# Altium schematic symbol library ethernet.SchLib: 65 symbols (part 2 of 2)
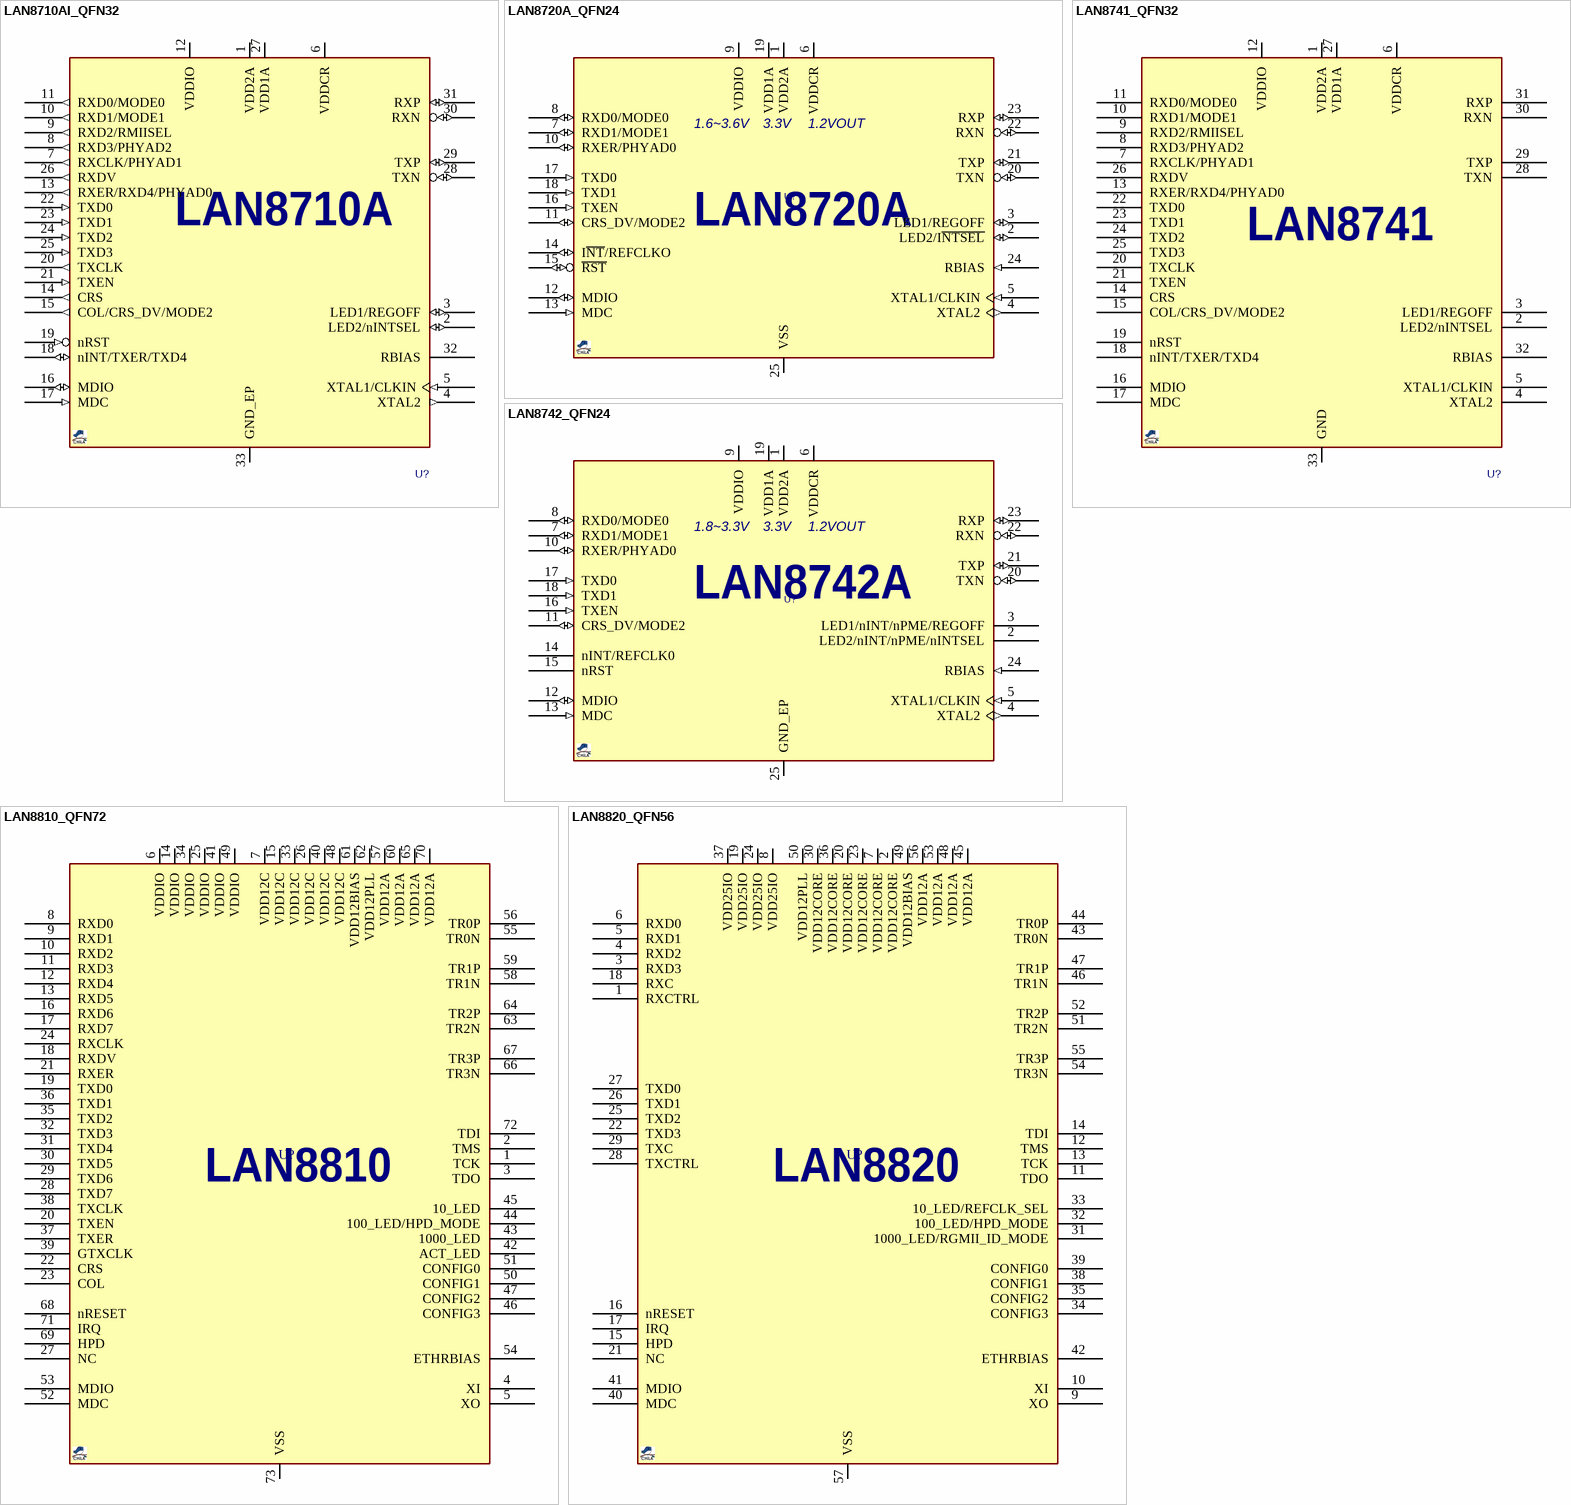
[diagram p14: symbols LAN8710AI_QFN32 to LAN8820_QFN56]

## LAN8710AI_QFN32
designator U?, comment LAN8710  (value not drawn)
Ethernet Transceiver, 10/100, MII/RMII/SMI; MANF: SMSC/Microchip; MANF_P#: LAN8710AI-EZK-ABC; PARAM2: 3.3Vcc, 1.6~3.6VIO; PARAM: -40~85oC; PRICE: 1.6$; VALUE: LAN8710; PACKAGE: QFN-32
footprint QFN50_32T (QFN, 32, 5X5mm, 0.5mm)
pins: 1 VDD2A (power), 2 LED2/nINTSEL (io), 3 LED1/REGOFF (io), 4 XTAL2 (out), 5 XTAL1/CLKIN (in), 6 VDDCR (power), 7 RXCLK/PHYAD1 (out), 8 RXD3/PHYAD2 (out), 9 RXD2/RMIISEL (out), 10 RXD1/MODE1 (out), 11 RXD0/MODE0 (out), 12 VDDIO (power), 13 RXER/RXD4/PHYAD0 (out), 14 CRS (out), 15 COL/CRS_DV/MODE2 (out), 16 MDIO (io), 17 MDC (in), 18 nINT/TXER/TXD4 (io), 19 nRST (in), 20 TXCLK (out), 21 TXEN (in), 22 TXD0 (in), 23 TXD1 (in), 24 TXD2 (in), 25 TXD3 (in), 26 RXDV (out), 27 VDD1A (power), 28 TXN (io), 29 TXP (io), 30 RXN (io), 31 RXP (io), 32 RBIAS, 33 GND_EP (power)
text: LAN8710A

## LAN8720A_QFN24
designator U?, comment LAN8720A  (value not drawn)
Ethernet Transceiver, 10/100, RMII, 1.6-3.6V QFN24; MANF: SMSC; MANF_P#: LAN8720A-CP-TR; PARAM2: 1.6-3.6V; VALUE: LAN8720A; PACKAGE: QFN-24
footprint QFN50_24T (MO-220 (JEDEC), RGE S-PQFP-N24 (TI), 4X4mm, 0.5mm, HVQFN24)
pins: 1 VDD2A (power), 2 LED2/I~{NTSEL} (io), 3 LED1/REGOFF (io), 4 XTAL2 (out), 5 XTAL1/CLKIN (in), 6 VDDCR (power), 7 RXD1/MODE1 (io), 8 RXD0/MODE0 (io), 9 VDDIO (power), 10 RXER/PHYAD0 (io), 11 CRS_DV/MODE2 (io), 12 MDIO (io), 13 MDC (in), 14 I~{NT}/REFCLKO (io), 15 ~{RST} (io), 16 TXEN (in), 17 TXD0 (in), 18 TXD1 (in), 19 VDD1A (power), 20 TXN (io), 21 TXP (io), 22 RXN (io), 23 RXP (io), 24 RBIAS (in), 25 VSS (power)
text: 1.6~3.6V; 3.3V; 1.2VOUT

## LAN8741_QFN32
designator U?, comment LAN8741  (value not drawn)
Ethernet Transceiver, 10/100, MII/RMII; MANF: SMSC/Microchip; MANF_P#: LAN8741A-EN; PARAM2: 3.3Vcc, 1.8~3.3VIO; PARAM: -40~85°C; PRICE: 1.6$; VALUE: LAN8741; PACKAGE: QFN-32
footprint QFN50_32T (QFN, 32, 5X5mm, 0.5mm)
pins: 1 VDD2A, 2 LED2/nINTSEL, 3 LED1/REGOFF, 4 XTAL2, 5 XTAL1/CLKIN, 6 VDDCR, 7 RXCLK/PHYAD1, 8 RXD3/PHYAD2, 9 RXD2/RMIISEL, 10 RXD1/MODE1, 11 RXD0/MODE0, 12 VDDIO, 13 RXER/RXD4/PHYAD0, 14 CRS, 15 COL/CRS_DV/MODE2, 16 MDIO, 17 MDC, 18 nINT/TXER/TXD4, 19 nRST, 20 TXCLK, 21 TXEN, 22 TXD0, 23 TXD1, 24 TXD2, 25 TXD3, 26 RXDV, 27 VDD1A, 28 TXN, 29 TXP, 30 RXN, 31 RXP, 32 RBIAS, 33 GND

## LAN8742_QFN24
designator U?, comment LAN8742A  (value not drawn)
Ethernet Transceiver, 10/100, RMII, 1.6-3.6V QFN24; MANF: SMSC, MICROCHIP; MANF_P#: LAN8742AI-CZ, LAN8742A-CZ; PARAM2: 1.8-3.6VIO, 1.2VCORE, 3.3VDDA; PARAM: -40~85oC; PRICE: 1.5$; VALUE: LAN8742A; PACKAGE: QFN-24
footprint QFN50_24T (MO-220 (JEDEC), RGE S-PQFP-N24 (TI), 4X4mm, 0.5mm, HVQFN24)
pins: 1 VDD2A (power), 2 LED2/nINT/nPME/nINTSEL, 3 LED1/nINT/nPME/REGOFF, 4 XTAL2 (out), 5 XTAL1/CLKIN (in), 6 VDDCR (power), 7 RXD1/MODE1 (io), 8 RXD0/MODE0 (io), 9 VDDIO (power), 10 RXER/PHYAD0 (io), 11 CRS_DV/MODE2 (io), 12 MDIO (io), 13 MDC (in), 14 nINT/REFCLK0, 15 nRST, 16 TXEN (in), 17 TXD0 (in), 18 TXD1 (in), 19 VDD1A (power), 20 TXN (io), 21 TXP (io), 22 RXN (io), 23 RXP (io), 24 RBIAS (in), 25 GND_EP (power)
text: 1.8~3.3V; 3.3V; 1.2VOUT

## LAN8810_QFN72
designator U?, comment LAN8810  (value not drawn)
Ethernet Transceiver, Gigabit, 10/100/1000, GMII; MANF: MARVELL; MANF_P#: LAN8810i-AKZE, LAN8810-AKZE; PARAM2: 2.5/3.3VIO, 1~1.2DVDD; PARAM: 10/100/1000, GMII; PRICE: -$; VALUE: LAN8810; PACKAGE: QFN-72
footprint QFN50_72T (QFN, 72-Leads, Body 10x10mm, Pitch 0.5mm)
pins: 1 TCK, 2 TMS, 3 TDO, 4 XI, 5 XO, 6 VDDIO, 7 VDD12C, 8 RXD0, 9 RXD1, 10 RXD2, 11 RXD3, 12 RXD4, 13 RXD5, 14 VDDIO, 15 VDD12C, 16 RXD6, 17 RXD7, 18 RXDV, 19 TXD0, 20 TXEN, 21 RXER, 22 CRS, 23 COL, 24 RXCLK, 25 VDDIO, 26 VDD12C, 27 NC, 28 TXD7, 29 TXD6, 30 TXD5, 31 TXD4, 32 TXD3, 33 VDD12C, 34 VDDIO, 35 TXD2, 36 TXD1, 37 TXER, 38 TXCLK, 39 GTXCLK, 40 VDD12C, 41 VDDIO, 42 ACT_LED, 43 1000_LED, 44 100_LED/HPD_MODE, 45 10_LED, 46 CONFIG3, 47 CONFIG2, 48 VDD12C, 49 VDDIO, 50 CONFIG1, 51 CONFIG0, 52 MDC, 53 MDIO, 54 ETHRBIAS, 55 TR0N, 56 TR0P, 57 VDD12A, 58 TR1N, 59 TR1P, 60 VDD12A, 61 VDD12BIAS, 62 VDD12PLL, 63 TR2N, 64 TR2P, 65 VDD12A, 66 TR3N, 67 TR3P, 68 nRESET, 69 HPD, 70 VDD12A, 71 IRQ, 72 TDI, 73 VSS

## LAN8820_QFN56
designator U?, comment LAN8820  (value not drawn)
Ethernet Transceiver, Gigabit, 10/100/1000, RGMII; MANF: MARVELL; MANF_P#: LAN8820i-ABZJ, LAN8820-ABZJ; PARAM2: 2.5VIO, 1~1.2DVDD; PARAM: 10/100/1000, RGMII; PRICE: -$; VALUE: LAN8820; PACKAGE: QFN-56
footprint QFN50_56T (QFN56, pitch: 0.5mm, 8x8mm)
pins: 1 RXCTRL, 2 VDD12CORE, 3 RXD3, 4 RXD2, 5 RXD1, 6 RXD0, 7 VDD12CORE, 8 VDD25IO, 9 XO, 10 XI, 11 TDO, 12 TMS, 13 TCK, 14 TDI, 15 HPD, 16 nRESET, 17 IRQ, 18 RXC, 19 VDD25IO, 20 VDD12CORE, 21 NC, 22 TXD3, 23 VDD12CORE, 24 VDD25IO, 25 TXD2, 26 TXD1, 27 TXD0, 28 TXCTRL, 29 TXC, 30 VDD12CORE, 31 1000_LED/RGMII_ID_MODE, 32 100_LED/HPD_MODE, 33 10_LED/REFCLK_SEL, 34 CONFIG3, 35 CONFIG2, 36 VDD12CORE, 37 VDD25IO, 38 CONFIG1, 39 CONFIG0, 40 MDC, 41 MDIO, 42 ETHRBIAS, 43 TR0N, 44 TR0P, 45 VDD12A, 46 TR1N, 47 TR1P, 48 VDD12A, 49 VDD12BIAS, 50 VDD12PLL, 51 TR2N, 52 TR2P, 53 VDD12A, 54 TR3N, 55 TR3P, 56 VDD12A, 57 VSS

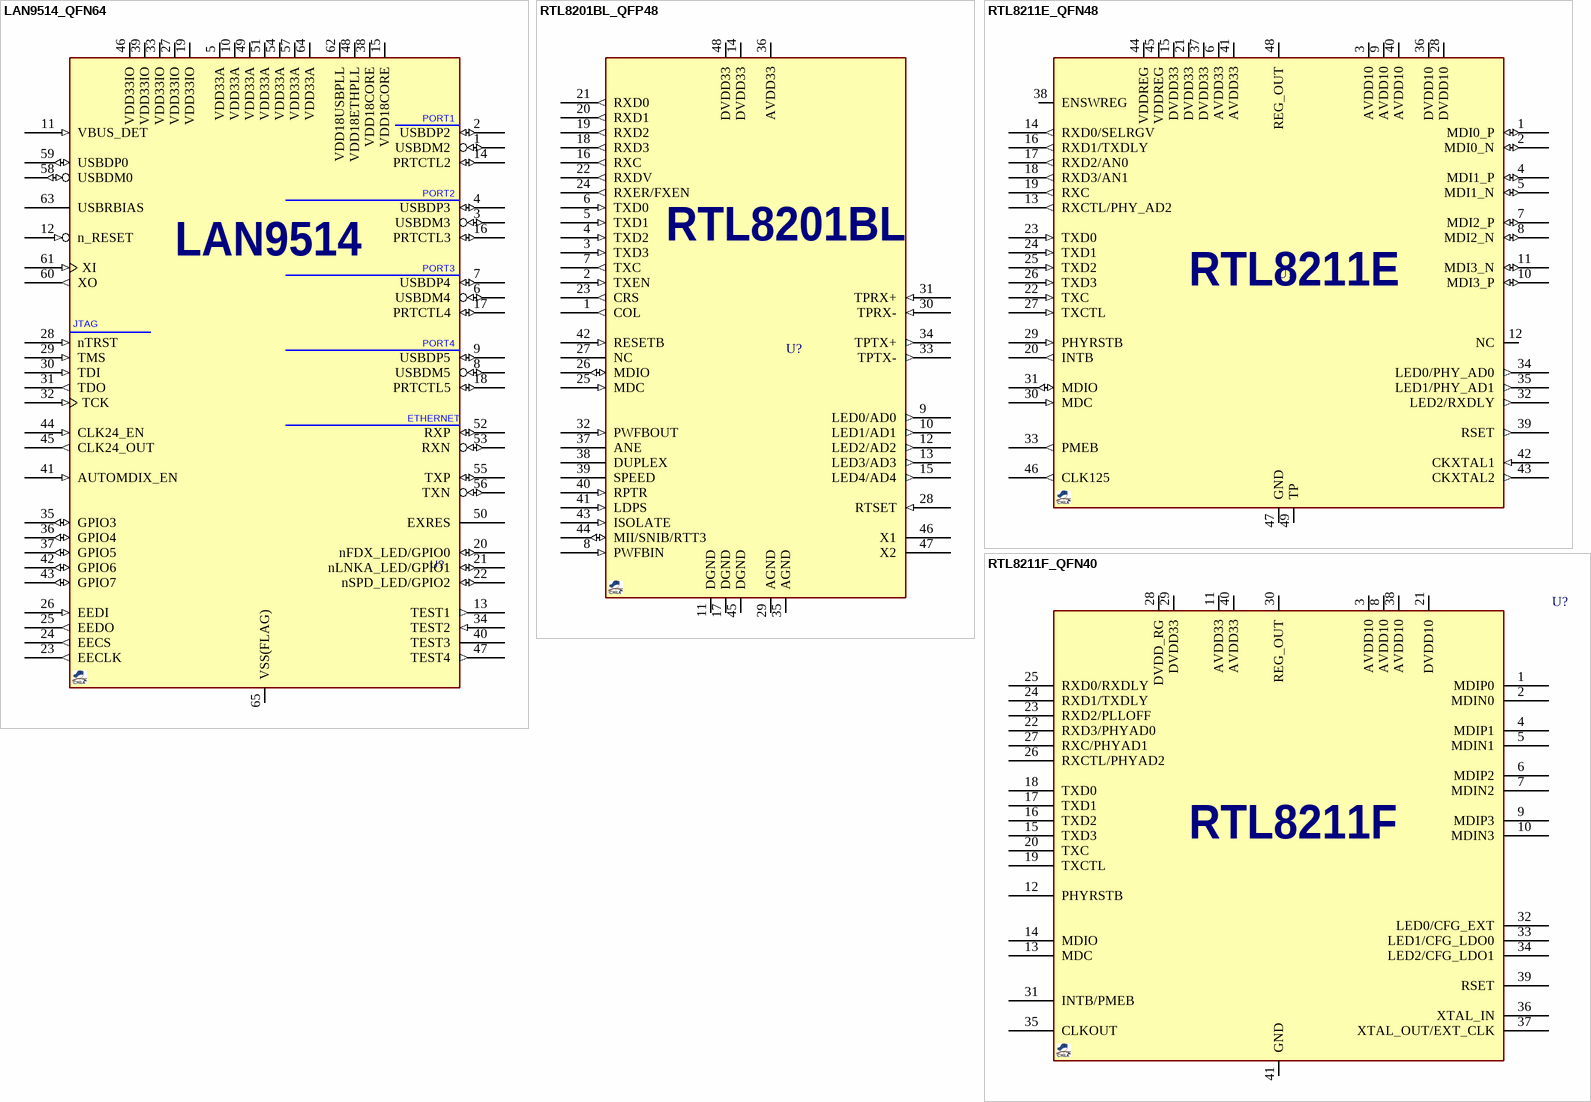
[diagram p10: symbols LAN9514_QFN64 to RTL8211F_QFN40]

## LAN9514_QFN64
designator U?, comment LAN9514  (value not drawn)
Ethernet Transceiver, 10/100, MII +USB2.0HUB; MANF: SMSC; MANF_P#: LAN9514i-JZX, LAN9514-JZX; VALUE: LAN9514; PACKAGE: QFN-64
footprint QFN50_64T (LFCSP_VQ, MO-220-VMMD-4, MO-220-WNJR-5(JEDEC), RGC S-PQFP-N64 (TI), 9X9mm, 0.5mm)
pins: 1 USBDM2 (io), 2 USBDP2 (io), 3 USBDM3 (io), 4 USBDP3 (io), 5 VDD33A (power), 6 USBDM4 (io), 7 USBDP4 (io), 8 USBDM5 (io), 9 USBDP5 (io), 10 VDD33A (power), 11 VBUS_DET (in), 12 n_RESET (in), 13 TEST1 (out), 14 PRTCTL2 (io), 15 VDD18CORE (power), 16 PRTCTL3 (io), 17 PRTCTL4 (io), 18 PRTCTL5 (io), 19 VDD33IO (power), 20 nFDX_LED/GPIO0 (io), 21 nLNKA_LED/GPIO1 (io), 22 nSPD_LED/GPIO2 (io), 23 EECLK (out), 24 EECS (out), 25 EEDO (out), 26 EEDI (in), 27 VDD33IO (power), 28 nTRST (in), 29 TMS (in), 30 TDI (in), 31 TDO (out), 32 TCK (in), 33 VDD33IO (power), 34 TEST2 (in), 35 GPIO3 (io), 36 GPIO4 (io), 37 GPIO5 (io), 38 VDD18CORE (power), 39 VDD33IO (power), 40 TEST3 (power), 41 AUTOMDIX_EN (in), 42 GPIO6 (io), 43 GPIO7 (io), 44 CLK24_EN (in), 45 CLK24_OUT (out), 46 VDD33IO (power), 47 TEST4 (out), 48 VDD18ETHPLL (power), 49 VDD33A (power), 50 EXRES, 51 VDD33A (power), 52 RXP (io), 53 RXN (io), 54 VDD33A (power), 55 TXP (io), 56 TXN (io), 57 VDD33A (power), 58 USBDM0 (io), 59 USBDP0 (io), 60 XO (out), 61 XI (in), 62 VDD18USBPLL (power), 63 USBRBIAS, 64 VDD33A (power), 65 VSS(FLAG) (power)
text: PORT1; PORT2; PORT3; JTAG; PORT4; ETHERNET

## RTL8201BL_QFP48
designator U?, comment RTL8201BL  (value not drawn)
Ethernet Transceiver, 10/100, MII; MANF: Realtek; MANF_P#: RTL8201BL; VALUE: RTL8201BL; PACKAGE: QFP-48
footprint QFG50_48 (LQFP48, PQFF, PQFG, TSQFP, 48-Leads, Body 7.00x7.00mm, Pitch 0.50mm)
pins: 1 COL (out), 2 TXEN (in), 3 TXD3 (in), 4 TXD2 (in), 5 TXD1 (in), 6 TXD0 (in), 7 TXC (out), 8 PWFBIN (in), 9 LED0/AD0 (out), 10 LED1/AD1 (out), 11 DGND (power), 12 LED2/AD2 (out), 13 LED3/AD3 (out), 14 DVDD33 (power), 15 LED4/AD4 (out), 16 RXC (out), 17 DGND (power), 18 RXD3 (out), 19 RXD2 (out), 20 RXD1 (out), 21 RXD0 (out), 22 RXDV (out), 23 CRS (out), 24 RXER/FXEN (out), 25 MDC (in), 26 MDIO (io), 27 NC (power), 28 RTSET (in), 29 AGND (power), 30 TPRX- (in), 31 TPRX+ (in), 32 PWFBOUT (in), 33 TPTX- (out), 34 TPTX+ (out), 35 AGND (power), 36 AVDD33 (power), 37 ANE (power), 38 DUPLEX (power), 39 SPEED (power), 40 RPTR (in), 41 LDPS (in), 42 RESETB (in), 43 ISOLATE (in), 44 MII/SNIB/RTT3 (io), 45 DGND (power), 46 X1, 47 X2, 48 DVDD33 (power)

## RTL8211E_QFN48
designator U?, comment RTL8211E  (value not drawn)
Ethernet Transceiver, 10/100/1000, RGMII; DESC: RTL8211E-VL; MANF: Realtek; MANF_P#: RTL8211E-VB-CG; PARAM2: 2.5VIO (3.3V TOL), 3.3&1.8&1.2; PARAM: 0~65oC; PRICE: 2$; VALUE: RTL8211E; PACKAGE: QFN-48
footprint QFN40_48T (QFN, 48-Leads, Body 6.00x6.00mm, Pitch 0.40mm, Thermal Pad 4.40x4.40mm)
pins: 1 MDI0_P (io), 2 MDI0_N (io), 3 AVDD10 (power), 4 MDI1_P (io), 5 MDI1_N (io), 6 AVDD33 (power), 7 MDI2_P (io), 8 MDI2_N (io), 9 AVDD10 (power), 10 MDI3_P (io), 11 MDI3_N (io), 12 NC, 13 RXCTL/PHY_AD2 (out), 14 RXD0/SELRGV (out), 15 DVDD33 (power), 16 RXD1/TXDLY (out), 17 RXD2/AN0 (out), 18 RXD3/AN1 (out), 19 RXC (out), 20 INTB (out), 21 DVDD33 (power), 22 TXC (in), 23 TXD0 (in), 24 TXD1 (in), 25 TXD2 (in), 26 TXD3 (in), 27 TXCTL (in), 28 DVDD10 (power), 29 PHYRSTB (in), 30 MDC (in), 31 MDIO (io), 32 LED2/RXDLY (out), 33 PMEB (out), 34 LED0/PHY_AD0 (out), 35 LED1/PHY_AD1 (out), 36 DVDD10 (power), 37 DVDD33 (power), 38 ENSWREG (power), 39 RSET (out), 40 AVDD10 (power), 41 AVDD33 (power), 42 CKXTAL1 (in), 43 CKXTAL2 (out), 44 VDDREG (power), 45 VDDREG (power), 46 CLK125 (out), 47 GND (power), 48 REG_OUT (power), 49 TP (power)

## RTL8211F_QFN40
designator U?, comment RTL8211F  (value not drawn)
Ethernet Transceiver, 10/100/1000, RGMII; PARAM2: 2.5VIO (3.3V TOL), 3.3&1.8&1.2; PARAM: 0~65oC; MANF_P#: RTL8211FI-CG; MANF: Realtek; PRICE: 2$; DESC: RTL8211FI-CG; ASSEMBLY: *; VALUE: RTL8211F; PACKAGE: QFN-40
footprint QFN40_40T (40 TQFN-EP (maxim), 5X5mm, 0.4mm)
pins: 1 MDIP0, 2 MDIN0, 3 AVDD10, 4 MDIP1, 5 MDIN1, 6 MDIP2, 7 MDIN2, 8 AVDD10, 9 MDIP3, 10 MDIN3, 11 AVDD33, 12 PHYRSTB, 13 MDC, 14 MDIO, 15 TXD3, 16 TXD2, 17 TXD1, 18 TXD0, 19 TXCTL, 20 TXC, 21 DVDD10, 22 RXD3/PHYAD0, 23 RXD2/PLLOFF, 24 RXD1/TXDLY, 25 RXD0/RXDLY, 26 RXCTL/PHYAD2, 27 RXC/PHYAD1, 28 DVDD_RG, 29 DVDD33, 30 REG_OUT, 31 INTB/PMEB, 32 LED0/CFG_EXT, 33 LED1/CFG_LDO0, 34 LED2/CFG_LDO1, 35 CLKOUT, 36 XTAL_IN, 37 XTAL_OUT/EXT_CLK, 38 AVDD10, 39 RSET, 40 AVDD33, 41 GND

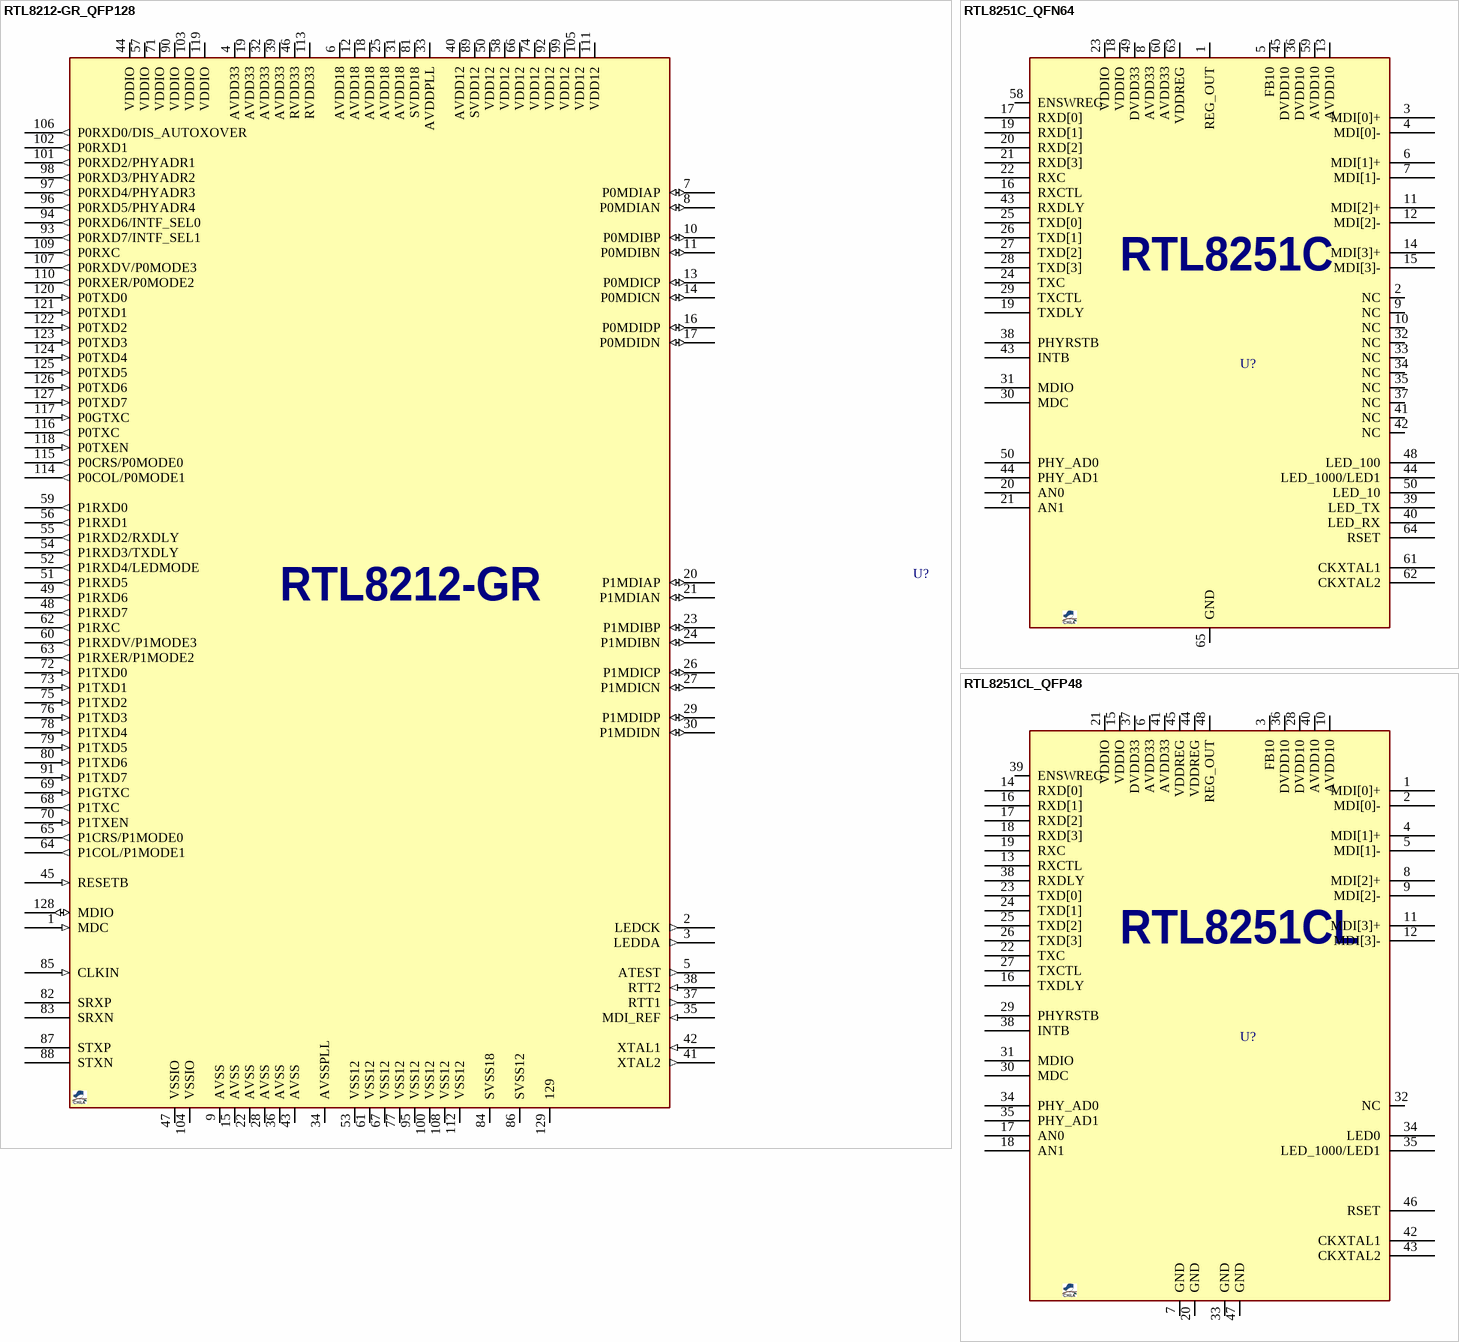
[diagram p11: symbols RTL8212-GR_QFP128 to RTL8251CL_QFP48]

## RTL8212-GR_QFP128
designator U?, comment RTL8212-GR  (value not drawn)
Ethernet Transceiver, DUAL 10/100/1000, GMII/RGMII; MANF: Realtek; MANF_P#: RTL8212-GR; VALUE: RTL8212-GR; PACKAGE: QFP-128
footprint QFG50_128T (128-Leads, Body 20X14mm, Pitch 0.50mm)
pins: 1 MDC (in), 2 LEDCK (out), 3 LEDDA (out), 4 AVDD33 (power), 5 ATEST (out), 6 AVDD18 (power), 7 P0MDIAP (io), 8 P0MDIAN (io), 9 AVSS (power), 10 P0MDIBP (io), 11 P0MDIBN (io), 12 AVDD18 (power), 13 P0MDICP (io), 14 P0MDICN (io), 15 AVSS (power), 16 P0MDIDP (io), 17 P0MDIDN (io), 18 AVDD18 (power), 19 AVDD33 (power), 20 P1MDIAP (io), 21 P1MDIAN (io), 22 AVSS (power), 23 P1MDIBP (io), 24 P1MDIBN (io), 25 AVDD18 (power), 26 P1MDICP (io), 27 P1MDICN (io), 28 AVSS (power), 29 P1MDIDP (io), 30 P1MDIDN (io), 31 AVDD18 (power), 32 AVDD33 (power), 33 AVDDPLL (power), 34 AVSSPLL (power), 35 MDI_REF (in), 36 AVSS (power), 37 RTT1 (out), 38 RTT2 (in), 39 AVDD33 (power), 40 AVDD12 (power), 41 XTAL2 (out), 42 XTAL1 (in), 43 AVSS (power), 44 VDDIO (power), 45 RESETB (in), 46 RVDD33 (power), 47 VSSIO (power), 48 P1RXD7 (out), 49 P1RXD6 (out), 50 VDD12 (power), 51 P1RXD5 (out), 52 P1RXD4/LEDMODE (out), 53 VSS12 (power), 54 P1RXD3/TXDLY (out), 55 P1RXD2/RXDLY (out), 56 P1RXD1 (out), 57 VDDIO (power), 58 VDD12 (power), 59 P1RXD0 (out), 60 P1RXDV/P1MODE3 (out), 61 VSS12 (power), 62 P1RXC (out), 63 P1RXER/P1MODE2 (out), 64 P1COL/P1MODE1 (out), 65 P1CRS/P1MODE0 (out), 66 VDD12 (power), 67 VSS12 (power), 68 P1TXC (out), 69 P1GTXC (in), 70 P1TXEN (in), 71 VDDIO (power), 72 P1TXD0 (in), 73 P1TXD1 (in), 74 VDD12 (power), 75 P1TXD2 (in), 76 P1TXD3 (in), 77 VSS12 (power), 78 P1TXD4 (in), 79 P1TXD5 (in), 80 P1TXD6 (in), 81 SVDD18 (power), 82 SRXP, 83 SRXN, 84 SVSS18 (power), 85 CLKIN (in), 86 SVSS12 (power), 87 STXP, 88 STXN, 89 SVDD12 (power), 90 VDDIO (power), 91 P1TXD7 (in), 92 VDD12 (power), 93 P0RXD7/INTF_SEL1 (out), 94 P0RXD6/INTF_SEL0 (out), 95 VSS12 (power), 96 P0RXD5/PHYADR4 (out), 97 P0RXD4/PHYADR3 (out), 98 P0RXD3/PHYADR2 (out), 99 VDD12 (power), 100 VSS12 (power), 101 P0RXD2/PHYADR1 (out), 102 P0RXD1 (out), 103 VDDIO (power), 104 VSSIO (power), 105 VDD12 (power), 106 P0RXD0/DIS_AUTOXOVER (out), 107 P0RXDV/P0MODE3 (out), 108 VSS12 (power), 109 P0RXC (out), 110 P0RXER/P0MODE2 (out), 111 VDD12 (power), 112 VSS12 (power), 113 RVDD33 (power), 114 P0COL/P0MODE1 (out), 115 P0CRS/P0MODE0 (out), 116 P0TXC (out), 117 P0GTXC (in), 118 P0TXEN (in), 119 VDDIO (power), 120 P0TXD0 (in), 121 P0TXD1 (in), 122 P0TXD2 (in), 123 P0TXD3 (in), 124 P0TXD4 (in), 125 P0TXD5 (in), 126 P0TXD6 (in), 127 P0TXD7 (in), 128 MDIO (io), 129

## RTL8251C_QFN64
designator U?, comment RTL8251C  (value not drawn)
Ethernet Transceiver, 10/100/1000, RGMII; MANF: Realtek; MANF_P#: RTL8251C-GR; PARAM2: 3.3/2.5VIO, 3.3&1.2VCC; PARAM: 0~70oC; VALUE: RTL8251C; PACKAGE: QFN-64
footprint QFN50_64T (LFCSP_VQ, MO-220-VMMD-4, MO-220-WNJR-5(JEDEC), RGC S-PQFP-N64 (TI), 9X9mm, 0.5mm)
pins: 1 REG_OUT, 2 NC, 3 MDI[0]+, 4 MDI[0]-, 5 FB10, 6 MDI[1]+, 7 MDI[1]-, 8 AVDD33, 9 NC, 10 NC, 11 MDI[2]+, 12 MDI[2]-, 13 AVDD10, 14 MDI[3]+, 15 MDI[3]-, 16 RXCTL, 17 RXD[0], 18 VDDIO, 19 RXD[1], 19 TXDLY, 20 RXD[2], 20 AN0, 21 RXD[3], 21 AN1, 22 RXC, 23 VDDIO, 24 TXC, 25 TXD[0], 26 TXD[1], 27 TXD[2], 28 TXD[3], 29 TXCTL, 30 MDC, 31 MDIO, 32 NC, 33 NC, 34 NC, 35 NC, 36 DVDD10, 37 NC, 38 PHYRSTB, 39 LED_TX, 40 LED_RX, 41 NC, 42 NC, 43 RXDLY, 43 INTB, 44 PHY_AD1, 44 LED_1000/LED1, 45 DVDD10, 48 LED_100, 49 DVDD33, 50 PHY_AD0, 50 LED_10, 58 ENSWREG, 59 AVDD10, 60 AVDD33, 61 CKXTAL1, 62 CKXTAL2, 63 VDDREG, 64 RSET, 65 GND

## RTL8251CL_QFP48
designator U?, comment RTL8251CL  (value not drawn)
Ethernet Transceiver, 10/100/1000, RGMII; MANF: Realtek; MANF_P#: RTL8251CL-GR; PARAM2: 3.3/2.5VIO, 3.3&1.2VCC; PARAM: 0~70oC; VALUE: RTL8251CL; PACKAGE: QFP-48
footprint QFG50_48 (LQFP48, PQFF, PQFG, TSQFP, 48-Leads, Body 7.00x7.00mm, Pitch 0.50mm)
pins: 1 MDI[0]+, 2 MDI[0]-, 3 FB10, 4 MDI[1]+, 5 MDI[1]-, 6 AVDD33, 7 GND, 8 MDI[2]+, 9 MDI[2]-, 10 AVDD10, 11 MDI[3]+, 12 MDI[3]-, 13 RXCTL, 14 RXD[0], 15 VDDIO, 16 RXD[1], 16 TXDLY, 17 RXD[2], 17 AN0, 18 RXD[3], 18 AN1, 19 RXC, 20 GND, 21 VDDIO, 22 TXC, 23 TXD[0], 24 TXD[1], 25 TXD[2], 26 TXD[3], 27 TXCTL, 28 DVDD10, 29 PHYRSTB, 30 MDC, 31 MDIO, 32 NC, 33 GND, 34 LED0, 34 PHY_AD0, 35 PHY_AD1, 35 LED_1000/LED1, 36 DVDD10, 37 DVDD33, 38 RXDLY, 38 INTB, 39 ENSWREG, 40 AVDD10, 41 AVDD33, 42 CKXTAL1, 43 CKXTAL2, 44 VDDREG, 45 VDDREG, 46 RSET, 47 GND, 48 REG_OUT

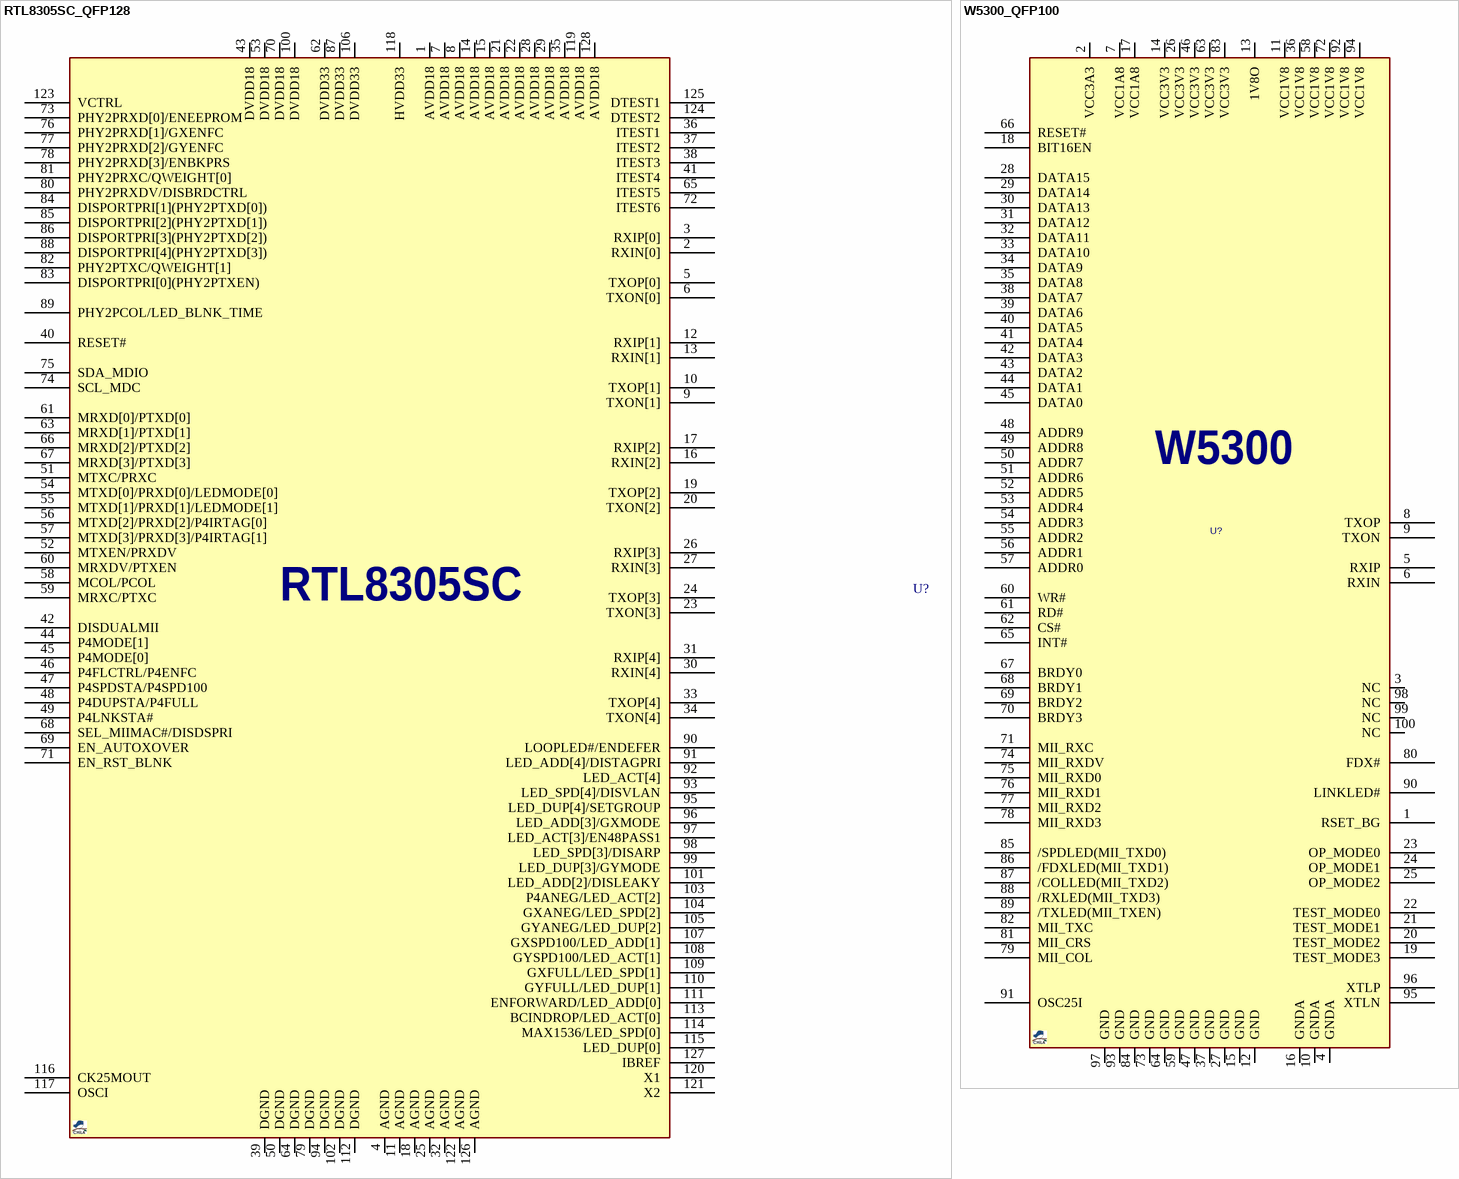
[diagram p12: symbols RTL8305SC_QFP128 to W5300_QFP100]

## RTL8305SC_QFP128
designator U?, comment RTL8305  (value not drawn)
Ethernet Transceiver, 5-port 10/100, MII; MANF: Realtek; MANF_P#: RTL8305SC; PARAM2: 1.8v and 3.3v; VALUE: RTL8305; PACKAGE: QFP-128
footprint QFG50_128T (128-Leads, Body 20X14mm, Pitch 0.50mm)
pins: 1 AVDD18, 2 RXIN[0], 3 RXIP[0], 4 AGND, 5 TXOP[0], 6 TXON[0], 7 AVDD18, 8 AVDD18, 9 TXON[1], 10 TXOP[1], 11 AGND, 12 RXIP[1], 13 RXIN[1], 14 AVDD18, 15 AVDD18, 16 RXIN[2], 17 RXIP[2], 18 AGND, 19 TXOP[2], 20 TXON[2], 21 AVDD18, 22 AVDD18, 23 TXON[3], 24 TXOP[3], 25 AGND, 26 RXIP[3], 27 RXIN[3], 28 AVDD18, 29 AVDD18, 30 RXIN[4], 31 RXIP[4], 32 AGND, 33 TXOP[4], 34 TXON[4], 35 AVDD18, 36 ITEST1, 37 ITEST2, 38 ITEST3, 39 DGND, 40 RESET#, 41 ITEST4, 42 DISDUALMII, 43 DVDD18, 44 P4MODE[1], 45 P4MODE[0], 46 P4FLCTRL/P4ENFC, 47 P4SPDSTA/P4SPD100, 48 P4DUPSTA/P4FULL, 49 P4LNKSTA#, 50 DGND, 51 MTXC/PRXC, 52 MTXEN/PRXDV, 53 DVDD18, 54 MTXD[0]/PRXD[0]/LEDMODE[0], 55 MTXD[1]/PRXD[1]/LEDMODE[1], 56 MTXD[2]/PRXD[2]/P4IRTAG[0], 57 MTXD[3]/PRXD[3]/P4IRTAG[1], 58 MCOL/PCOL, 59 MRXC/PTXC, 60 MRXDV/PTXEN, 61 MRXD[0]/PTXD[0], 62 DVDD33, 63 MRXD[1]/PTXD[1], 64 DGND, 65 ITEST5, 66 MRXD[2]/PTXD[2], 67 MRXD[3]/PTXD[3], 68 SEL_MIIMAC#/DISDSPRI, 69 EN_AUTOXOVER, 70 DVDD18, 71 EN_RST_BLNK, 72 ITEST6, 73 PHY2PRXD[0]/ENEEPROM, 74 SCL_MDC, 75 SDA_MDIO, 76 PHY2PRXD[1]/GXENFC, 77 PHY2PRXD[2]/GYENFC, 78 PHY2PRXD[3]/ENBKPRS, 79 DGND, 80 PHY2PRXDV/DISBRDCTRL, 81 PHY2PRXC/QWEIGHT[0], 82 PHY2PTXC/QWEIGHT[1], 83 DISPORTPRI[0](PHY2PTXEN), 84 DISPORTPRI[1](PHY2PTXD[0]), 85 DISPORTPRI[2](PHY2PTXD[1]), 86 DISPORTPRI[3](PHY2PTXD[2]), 87 DVDD33, 88 DISPORTPRI[4](PHY2PTXD[3]), 89 PHY2PCOL/LED_BLNK_TIME, 90 LOOPLED#/ENDEFER, 91 LED_ADD[4]/DISTAGPRI, 92 LED_ACT[4], 93 LED_SPD[4]/DISVLAN, 94 DGND, 95 LED_DUP[4]/SETGROUP, 96 LED_ADD[3]/GXMODE, 97 LED_ACT[3]/EN48PASS1, 98 LED_SPD[3]/DISARP, 99 LED_DUP[3]/GYMODE, 100 DVDD18, 101 LED_ADD[2]/DISLEAKY, 102 DGND, 103 P4ANEG/LED_ACT[2], 104 GXANEG/LED_SPD[2], 105 GYANEG/LED_DUP[2], 106 DVDD33, 107 GXSPD100/LED_ADD[1], 108 GYSPD100/LED_ACT[1], 109 GXFULL/LED_SPD[1], 110 GYFULL/LED_DUP[1], 111 ENFORWARD/LED_ADD[0], 112 DGND, 113 BCINDROP/LED_ACT[0], 114 MAX1536/LED_SPD[0], 115 LED_DUP[0], 116 CK25MOUT, 117 OSCI, 118 HVDD33, 119 AVDD18, 120 X1, 121 X2, 122 AGND, 123 VCTRL, 124 DTEST2, 125 DTEST1, 126 AGND, 127 IBREF, 128 AVDD18

## W5300_QFP100
designator U?, comment W5300  (value not drawn)
Ethernet Controller, 10/100, MII, DMA; MANF: WIZNET; MANF_P#: W5300; VALUE: W5300; PACKAGE: QFP-100
footprint QFG50_100 (LQFP100, PQFP100, A100 (Cypress), TQ100/VQ100 (Xilinx), 14.0x14.0mm, Pitch 0.5mm, HT100, HTG100)
pins: 1 RSET_BG, 2 VCC3A3, 3 NC, 4 GNDA, 5 RXIP, 6 RXIN, 7 VCC1A8, 8 TXOP, 9 TXON, 10 GNDA, 11 VCC1V8, 12 GND, 13 1V8O, 14 VCC3V3, 15 GND, 16 GNDA, 17 VCC1A8, 18 BIT16EN, 19 TEST_MODE3, 20 TEST_MODE2, 21 TEST_MODE1, 22 TEST_MODE0, 23 OP_MODE0, 24 OP_MODE1, 25 OP_MODE2, 26 VCC3V3, 27 GND, 28 DATA15, 29 DATA14, 30 DATA13, 31 DATA12, 32 DATA11, 33 DATA10, 34 DATA9, 35 DATA8, 36 VCC1V8, 37 GND, 38 DATA7, 39 DATA6, 40 DATA5, 41 DATA4, 42 DATA3, 43 DATA2, 44 DATA1, 45 DATA0, 46 VCC3V3, 47 GND, 48 ADDR9, 49 ADDR8, 50 ADDR7, 51 ADDR6, 52 ADDR5, 53 ADDR4, 54 ADDR3, 55 ADDR2, 56 ADDR1, 57 ADDR0, 58 VCC1V8, 59 GND, 60 WR#, 61 RD#, 62 CS#, 63 VCC3V3, 64 GND, 65 INT#, 66 RESET#, 67 BRDY0, 68 BRDY1, 69 BRDY2, 70 BRDY3, 71 MII_RXC, 72 VCC1V8, 73 GND, 74 MII_RXDV, 75 MII_RXD0, 76 MII_RXD1, 77 MII_RXD2, 78 MII_RXD3, 79 MII_COL, 80 FDX#, 81 MII_CRS, 82 MII_TXC, 83 VCC3V3, 84 GND, 85 /SPDLED(MII_TXD0), 86 /FDXLED(MII_TXD1), 87 /COLLED(MII_TXD2), 88 /RXLED(MII_TXD3), 89 /TXLED(MII_TXEN), 90 LINKLED#, 91 OSC25I, 92 VCC1V8, 93 GND, 94 VCC1V8, 95 XTLN, 96 XTLP, 97 GND, 98 NC, 99 NC, 100 NC

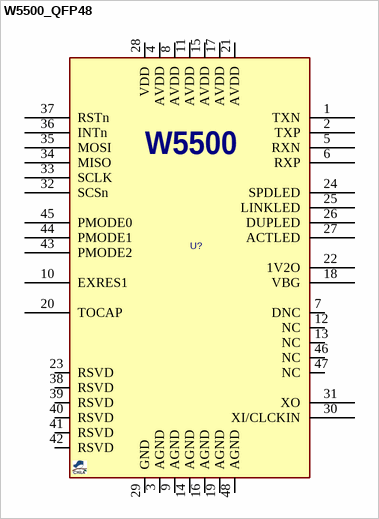
[diagram p13: symbol W5500_QFP48]

## W5500_QFP48
designator U?
Ethernet Controller, 10/100, SPI, DMA; MANF: WIZNET; MANF_P#: W5500; PACKAGE: QFP-48
footprint QFG50_48 (LQFP48, PQFF, PQFG, TSQFP, 48-Leads, Body 7.00x7.00mm, Pitch 0.50mm)
pins: 1 TXN, 2 TXP, 3 AGND, 4 AVDD, 5 RXN, 6 RXP, 7 DNC, 8 AVDD, 9 AGND, 10 EXRES1, 11 AVDD, 12 NC, 13 NC, 14 AGND, 15 AVDD, 16 AGND, 17 AVDD, 18 VBG, 19 AGND, 20 TOCAP, 21 AVDD, 22 1V2O, 23 RSVD, 24 SPDLED, 25 LINKLED, 26 DUPLED, 27 ACTLED, 28 VDD, 29 GND, 30 XI/CLCKIN, 31 XO, 32 SCSn, 33 SCLK, 34 MISO, 35 MOSI, 36 INTn, 37 RSTn, 38 RSVD, 39 RSVD, 40 RSVD, 41 RSVD, 42 RSVD, 43 PMODE2, 44 PMODE1, 45 PMODE0, 46 NC, 47 NC, 48 AGND